# Altium footprint library DIP - Peg Leads.PcbLib: 71 footprints (part 2 of 5)
Each footprint in its own frame and in the unit in brackets; x right, y up, seen from the top. Pads: shape width x height; smd on the part's side, far side on the other; paste and mask are expansions set on the pad; w line width, h text height; cw(c..) or ccw(c..) is an arc to the next point about the centre after c.
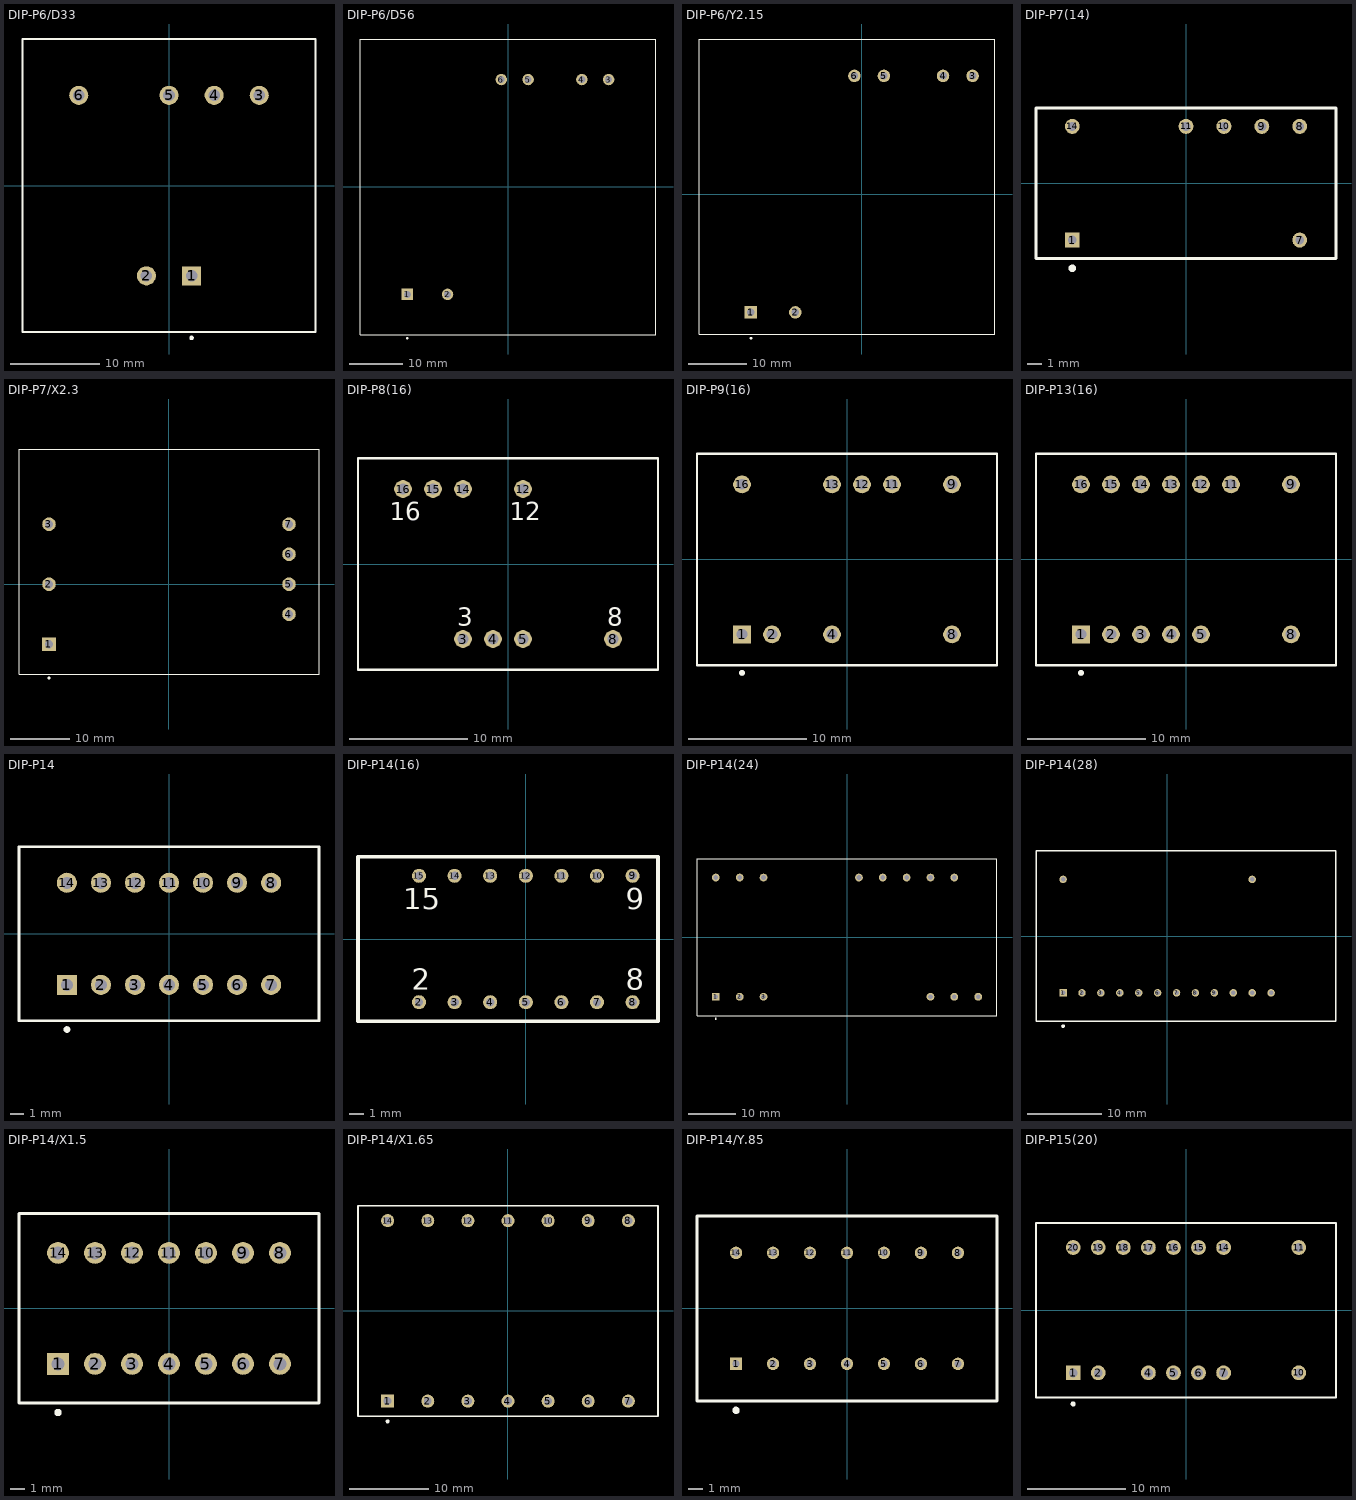
[diagram p1: the footprints below, top view; thin cyan lines are the x and y axes]

## DIP-P6/D33 [mm] "DIP; 6 Round Pins; Row Space 20.32 mm; Pitch 2.54 mm"
height 16.5
pads (6):
  rect 2.15x2.15 hole 1.3: 1(2.54,-10.16)
  round 2.15 hole 1.3: 2(-2.54,-10.16) 3(10.16,10.16) 4(5.08,10.16) 5(0,10.16) 6(-10.16,10.16)
Top Overlay:
  circle w0.25: c2.54,-17.15 r0.125
  lines w0.2: -16.5,-16.5 -16.5,16.5 16.5,16.5 16.5,-16.5 -16.5,-16.5

## DIP-P6/D56 [mm] "DIP; 6 Round Pins; Row Space 40.64 mm; Pitch 2.54 mm"
height 18
pads (6):
  rect 2.15x2.15 hole 1.3: 1(-19.05,-20.32)
  round 2.15 hole 1.3: 2(-11.43,-20.32) 3(19.05,20.32) 4(13.97,20.32) 5(3.81,20.32) 6(-1.27,20.32)
Top Overlay:
  circle w0.25: c-19.05,-28.65 r0.125
  lines w0.2: -28,-28 28,-28 28,28 -28,28 -28,-28

## DIP-P6/Y2.15 [mm] "DIP; 6 Round Pins; Row Space 40.64 mm; Pitch 2.54 mm"
height 18
pads (6):
  rect 2.15x2.15 hole 1.3: 1(-19.05,-20.32)
  round 2.15 hole 1.3: 2(-11.43,-20.32) 3(19.05,20.32) 4(13.97,20.32) 5(3.81,20.32) 6(-1.27,20.32)
Top Overlay:
  circle w0.25: c-19.05,-24.78 r0.125
  lines w0.2: -27.94,-24.13 -27.94,26.67 22.86,26.67 22.86,-24.13 -27.94,-24.13

## DIP-P7(14) [mm] "DIP; 14 Rectangular pins (7 Absent); Row Space 7.62 mm; Pitch 2.54 mm"
height 6.8
pads (7):
  rect 1x1 hole 0.6: 1(-7.62,-3.81)
  round 1 hole 0.6: 7(7.62,-3.81) 8(7.62,3.81) 9(5.08,3.81) 10(2.54,3.81) 11(0,3.81) 14(-7.62,3.81)
Top Overlay:
  circle w0.25: c-7.62,-5.7 r0.125
  lines w0.2: -10.05,-5.05 -10.05,-0.635 -10.05,5.05 10.05,5.05 10.05,-5.05 -10.05,-5.05

## DIP-P7/X2.3 [mm] "DIP; 7 Round Pins; Row Space 40.64 mm; Pitch 5.08 mm"
height 19
pads (7):
  rect 2.3x2.3 hole 1.4: 1(-20.32,-10.16)
  round 2.3 hole 1.4: 2(-20.32,0) 3(-20.32,10.16) 4(20.32,-5.08) 5(20.32,0) 6(20.32,5.08) 7(20.32,10.16)
Top Overlay:
  circle w0.25: c-20.32,-15.89 r0.125
  lines w0.2: -25.4,-15.24 25.4,-15.24 25.4,22.86 -25.4,22.86 -25.4,-15.24

## DIP-P8(16) [mm] "DIP; 16 Round Pins (8 Absent); Row Space 12.7 mm; Pitch 2.54 mm"
height 9.25
pads (8):
  round 1.5 hole 0.9: 3(-3.81,-6.35) 4(-1.27,-6.35) 5(1.27,-6.35) 8(8.89,-6.35) 12(1.27,6.35) 14(-3.81,6.35) 15(-6.35,6.35) 16(-8.89,6.35)
Top Overlay:
  lines w0.2: -12.7,-8.95 -12.7,-0.635 -12.7,8.95 12.7,8.95 12.7,-8.95 -12.7,-8.95
  text "12" at 0.145,3.725 h1.5
  text "8" at 8.39,-5.225 h1.5
  text "3" at -4.31,-5.225 h1.5
  text "16" at -10.015,3.725 h1.5

## DIP-P9(16) [mm] "DIP; 16 Round Pins (7 Absent); Row Space 12.7 mm; Pitch 2.54 mm"
height 9.25
pads (9):
  rect 1.5x1.5 hole 0.9: 1(-8.89,-6.35)
  round 1.5 hole 0.9: 2(-6.35,-6.35) 4(-1.27,-6.35) 8(8.89,-6.35) 9(8.89,6.35) 11(3.81,6.35) 12(1.27,6.35) 13(-1.27,6.35) 16(-8.89,6.35)
Top Overlay:
  circle w0.25: c-8.89,-9.6 r0.125
  lines w0.2: -12.7,-8.95 12.7,-8.95 12.7,8.95 -12.7,8.95 -12.7,-0.635 -12.7,-8.95

## DIP-P13(16) [mm] "DIP; 16 Round Pins (3 Absent); Row Space 12.7 mm; Pitch 2.54 mm"
height 9.25
pads (13):
  rect 1.5x1.5 hole 0.9: 1(-8.89,-6.35)
  round 1.5 hole 0.9: 2(-6.35,-6.35) 3(-3.81,-6.35) 4(-1.27,-6.35) 5(1.27,-6.35) 8(8.89,-6.35) 9(8.89,6.35) 11(3.81,6.35) 12(1.27,6.35) 13(-1.27,6.35) 14(-3.81,6.35) 15(-6.35,6.35) 16(-8.89,6.35)
Top Overlay:
  circle w0.25: c-8.89,-9.6 r0.125
  lines w0.2: -12.7,-8.95 -12.7,-0.635 -12.7,8.95 12.7,8.95 12.7,-8.95 -12.7,-8.95

## DIP-P14 [mm] "DIP; 14 Round Pins; Row Space 7.62 mm; Pitch 2.54 mm"
height 5.59
pads (14):
  rect 1.5x1.5 hole 0.9: 1(-7.62,-3.81)
  round 1.5 hole 0.9: 2(-5.08,-3.81) 3(-2.54,-3.81) 4(0,-3.81) 5(2.54,-3.81) 6(5.08,-3.81) 7(7.62,-3.81) 8(7.62,3.81) 9(5.08,3.81) 10(2.54,3.81) 11(0,3.81) 12(-2.54,3.81) 13(-5.08,3.81) 14(-7.62,3.81)
Top Overlay:
  circle w0.25: c-7.62,-7.15 r0.125
  lines w0.2: -11.2,-6.5 -11.2,-0.635 -11.2,6.5 11.2,6.5 11.2,-6.5 -11.2,-6.5

## DIP-P14(16) [mm] "DIP; 16 Rectangular pins (2 Absent); Row Space 9.015 mm; Pitch 2.54 mm"
height 10.23
pads (14):
  round 1 hole 0.6: 2(-7.62,-4.51) 3(-5.08,-4.51) 4(-2.54,-4.51) 5(0,-4.51) 6(2.54,-4.51) 7(5.08,-4.51) 8(7.62,-4.51) 9(7.62,4.51) 10(5.08,4.51) 11(2.54,4.51) 12(0,4.51) 13(-2.54,4.51) 14(-5.08,4.51) 15(-7.62,4.51)
Top Overlay:
  lines w0.25: -11.97,-5.85 9.43,-5.85 9.43,5.85 -11.97,5.85 -11.97,-0.635 -11.97,-5.85
  text "15" at -8.745,2.135 h1.5
  text "8" at 7.12,-3.635 h1.5
  text "2" at -8.12,-3.635 h1.5
  text "9" at 7.12,2.135 h1.5

## DIP-P14(24) [mm] "DIP; 24 Round Pins (10 Absent); Row Space 25.4 mm; Pitch 5.08 mm"
height 17.3
pads (14):
  rect 1.65x1.65 hole 1: 1(-27.94,-12.7)
  round 1.65 hole 1: 2(-22.86,-12.7) 3(-17.78,-12.7) 10(17.78,-12.7) 11(22.86,-12.7) 12(27.94,-12.7) 14(22.86,12.7) 15(17.78,12.7) 16(12.7,12.7) 17(7.62,12.7) 18(2.54,12.7) 22(-17.78,12.7) 23(-22.86,12.7) 24(-27.94,12.7)
Top Overlay:
  circle w0.25: c-27.94,-17.4 r0.125
  lines w0.2: -31.95,-16.75 -31.95,-0.635 -31.95,16.75 31.95,16.75 31.95,-16.75 -31.95,-16.75

## DIP-P14(28) [mm] "DIP; 28 Rectangular pins (14 Absent); Row Space 15.24 mm; Pitch 2.54 mm"
height 22.6
pads (14):
  rect 1x1 hole 0.6: 1(-13.97,-7.62)
  round 1 hole 0.6: 2(-11.43,-7.62) 3(-8.89,-7.62) 4(-6.35,-7.62) 5(-3.81,-7.62) 6(-1.27,-7.62) 7(1.27,-7.62) 8(3.81,-7.62) 9(6.35,-7.62) 10(8.89,-7.62) 11(11.43,-7.62) 12(13.97,-7.62) 18(11.43,7.62) 28(-13.97,7.62)
Top Overlay:
  circle w0.25: c-13.97,-12.1 r0.125
  lines w0.2: -17.61,-11.45 -17.61,-0.635 -17.61,11.45 22.69,11.45 22.69,-11.45 -17.61,-11.45

## DIP-P14/X1.5 [mm] "DIP; 14 Round Pins; Row Space 7.62 mm; Pitch 2.54 mm"
height 6.6
pads (14):
  rect 1.5x1.5 hole 0.9: 1(-7.62,-3.81)
  round 1.5 hole 0.9: 2(-5.08,-3.81) 3(-2.54,-3.81) 4(0,-3.81) 5(2.54,-3.81) 6(5.08,-3.81) 7(7.62,-3.81) 8(7.62,3.81) 9(5.08,3.81) 10(2.54,3.81) 11(0,3.81) 12(-2.54,3.81) 13(-5.08,3.81) 14(-7.62,3.81)
Top Overlay:
  circle w0.25: c-7.62,-7.15 r0.125
  lines w0.2: -10.3,-6.5 -10.3,-0.635 -10.3,6.5 10.3,6.5 10.3,-6.5 -10.3,-6.5

## DIP-P14/X1.65 [mm] "DIP; 14 Round Pins; Row Space 22.86 mm; Pitch 5.08 mm"
height 8.9
pads (14):
  rect 1.65x1.65 hole 1: 1(-15.24,-11.43)
  round 1.65 hole 1: 2(-10.16,-11.43) 3(-5.08,-11.43) 4(0,-11.43) 5(5.08,-11.43) 6(10.16,-11.43) 7(15.24,-11.43) 8(15.24,11.43) 9(10.16,11.43) 10(5.08,11.43) 11(0,11.43) 12(-5.08,11.43) 13(-10.16,11.43) 14(-15.24,11.43)
Top Overlay:
  circle w0.25: c-15.24,-14 r0.125
  lines w0.2: -19,-13.35 19,-13.35 19,13.35 -19,13.35 -19,-0.635 -19,-13.35

## DIP-P14/Y.85 [mm] "DIP; 14 Rectangular Pins; Row Space 7.62 mm; Pitch 2.54 mm"
height 5.34
pads (14):
  rect 0.85x0.85 hole 0.5: 1(-7.62,-3.81)
  round 0.85 hole 0.5: 2(-5.08,-3.81) 3(-2.54,-3.81) 4(0,-3.81) 5(2.54,-3.81) 6(5.08,-3.81) 7(7.62,-3.81) 8(7.62,3.81) 9(5.08,3.81) 10(2.54,3.81) 11(0,3.81) 12(-2.54,3.81) 13(-5.08,3.81) 14(-7.62,3.81)
Top Overlay:
  circle w0.25: c-7.62,-7 r0.125
  lines w0.2: -10.3,-6.35 -10.3,-0.635 -10.3,6.35 10.3,6.35 10.3,-6.35 -10.3,-6.35

## DIP-P15(20) [mm] "DIP; 20 Round Pins (5 Absent); Row Space 12.7 mm; Pitch 2.54 mm"
height 9.25
pads (15):
  rect 1.5x1.5 hole 0.9: 1(-11.43,-6.35)
  round 1.5 hole 0.9: 2(-8.89,-6.35) 4(-3.81,-6.35) 5(-1.27,-6.35) 6(1.27,-6.35) 7(3.81,-6.35) 10(11.43,-6.35) 11(11.43,6.35) 14(3.81,6.35) 15(1.27,6.35) 16(-1.27,6.35) 17(-3.81,6.35) 18(-6.35,6.35) 19(-8.89,6.35) 20(-11.43,6.35)
Top Overlay:
  circle w0.25: c-11.43,-9.5 r0.125
  lines w0.2: -15.2,-8.85 -15.2,-0.635 -15.2,8.85 15.2,8.85 15.2,-8.85 -15.2,-8.85